# Altium schematic symbol library Schlib3.SchLib: 1 symbol
Pins are listed as number, name and electrical type; pins without a type are passive.

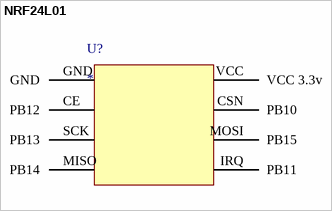
[diagram p0: symbol NRF24L01]

## NRF24L01
designator U?
pins: CE PB12, CSN PB10, GND, IRQ PB11, MISO PB14, MOSI PB15, SCK PB13, VCC VCC 3.3v